# EAGLE library part LM386N-4_NOPB (library LM386N-4_NOPB)
Audio power amplifier,LM386N-4 1W Texas Instruments LM386N-4/NOPB Audio Amplifier, Class-AB Mono, 8-Pin MDIP Source: Datasheet <http://www.ti.com/lit/ds/symlink/lm386.pdf>
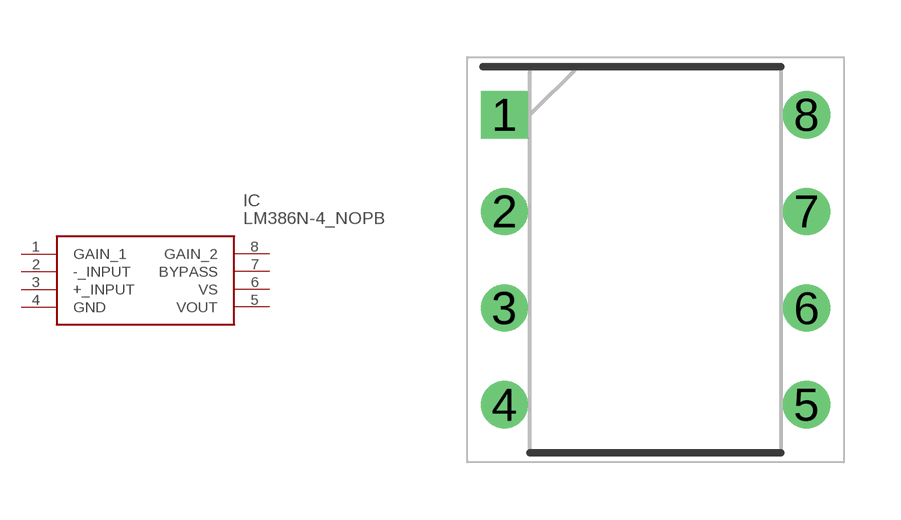
[diagram p0: symbol with the pads of DIP794W53P254L959H508Q8N; footprint DIP794W53P254L959H508Q8N]

Designator prefix IC

## LM386N-4_NOPB (Description: Audio power amplifier,LM386N-4 1W Texas Instruments LM386N-4/NOPB Audio Amplifier, Class-AB Mono, 8-Pin MDIP; Height: 5.08mm; Manufacturer_Name: Texas Instruments; Manufacturer_Part_Number: LM386N-4/NOPB; Mouser_Part_Number: 926-LM386N-4/NOPB; Mouser_Price-Stock: https://www.mouser.co.uk/ProductDetail/Texas-Instruments/LM386N-4-NOPB?qs=QbsRYf82W3FsJPldcpZj5g%3D%3D)  [DIP794W53P254L959H508Q8N]
1  GAIN_1
2  -_INPUT
3  +_INPUT
4  GND
5  VOUT
6  VS
7  BYPASS
8  GAIN_2

## Footprint DIP794W53P254L959H508Q8N (pad centres in mm)
P (R-PDIP-T8)
drill 0.73 pad 1.13 square: 1 -3.97,3.81
drill 0.73 pad 1.13: 2 -3.97,1.27; 3 -3.97,-1.27; 4 -3.97,-3.81; 5 3.97,-3.81; 6 3.97,-1.27; 7 3.97,1.27; 8 3.97,3.81